# EAGLE library part JN517X (library borkedlabs-micros)
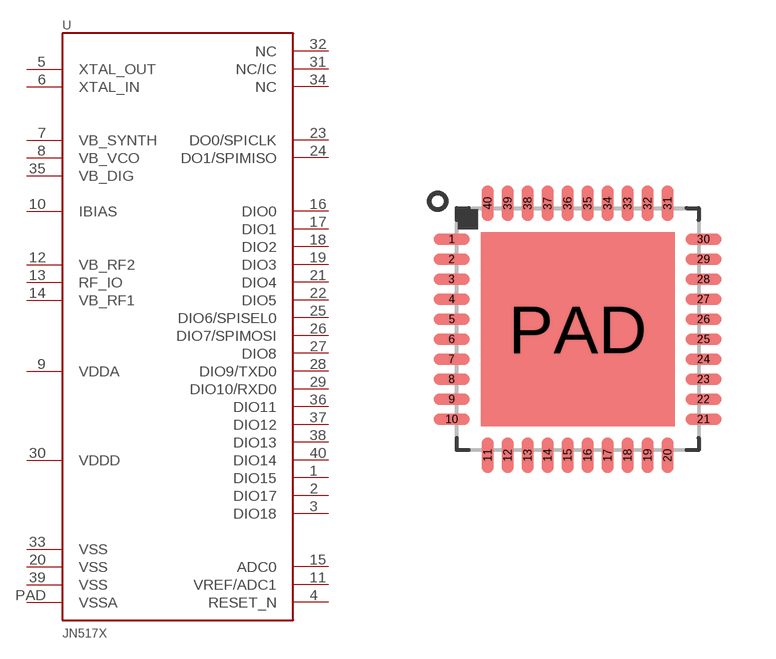
[diagram p10: symbol with the pads of HVQFN40-6X6; footprint HVQFN40-6X6]

Designator prefix U

## JN517X  [HVQFN40-6X6]
1  DIO15
2  DIO17
3  DIO18
4  RESET_N
5  XTAL_OUT
6  XTAL_IN
7  VB_SYNTH
8  VB_VCO
9  VDDA
10  IBIAS
11  VREF/ADC1
12  VB_RF2
13  RF_IO
14  VB_RF1
15  ADC0
16  DIO0
17  DIO1
18  DIO2
19  DIO3
20  VSS
21  DIO4
22  DIO5
23  DO0/SPICLK
24  DO1/SPIMISO
25  DIO6/SPISEL0
26  DIO7/SPIMOSI
27  DIO8
28  DIO9/TXD0
29  DIO10/RXD0
30  VDDD
31  NC/IC
32  NC
33  VSS
34  NC
35  VB_DIG
36  DIO11
37  DIO12
38  DIO13
39  VSS
40  DIO14
PAD  VSSA

## Footprint HVQFN40-6X6 (pad centres in mm)
smd 0.9 x 0.29: 1 -3.15,2.25; 2 -3.15,1.75; 3 -3.15,1.25; 4 -3.15,0.75; 5 -3.15,0.25; 6 -3.15,-0.25; 7 -3.15,-0.75; 8 -3.15,-1.25; 9 -3.15,-1.75; 10 -3.15,-2.25; 21 3.15,-2.25; 22 3.15,-1.75; 23 3.15,-1.25; 24 3.15,-0.75; 25 3.15,-0.25; 26 3.15,0.25; 27 3.15,0.75; 28 3.15,1.25; 29 3.15,1.75; 30 3.15,2.25
smd 0.29 x 0.9: 11 -2.25,-3.15; 12 -1.75,-3.15; 13 -1.25,-3.15; 14 -0.75,-3.15; 15 -0.25,-3.15; 16 0.25,-3.15; 17 0.75,-3.15; 18 1.25,-3.15; 19 1.75,-3.15; 20 2.25,-3.15; 31 2.25,3.15; 32 1.75,3.15; 33 1.25,3.15; 34 0.75,3.15; 35 0.25,3.15; 36 -0.25,3.15; 37 -0.75,3.15; 38 -1.25,3.15; 39 -1.75,3.15; 40 -2.25,3.15
smd 4.85 x 4.85: PAD 0,0